# Altium footprint library BM04B-GHS-TBT(LF)(SN)(N).PcbLib: 1 footprints
Each footprint in its own frame and in the unit in brackets; x right, y up, seen from the top. Pads: shape width x height; smd on the part's side, far side on the other; paste and mask are expansions set on the pad; w line width, h text height; cw(c..) or ccw(c..) is an arc to the next point about the centre after c.
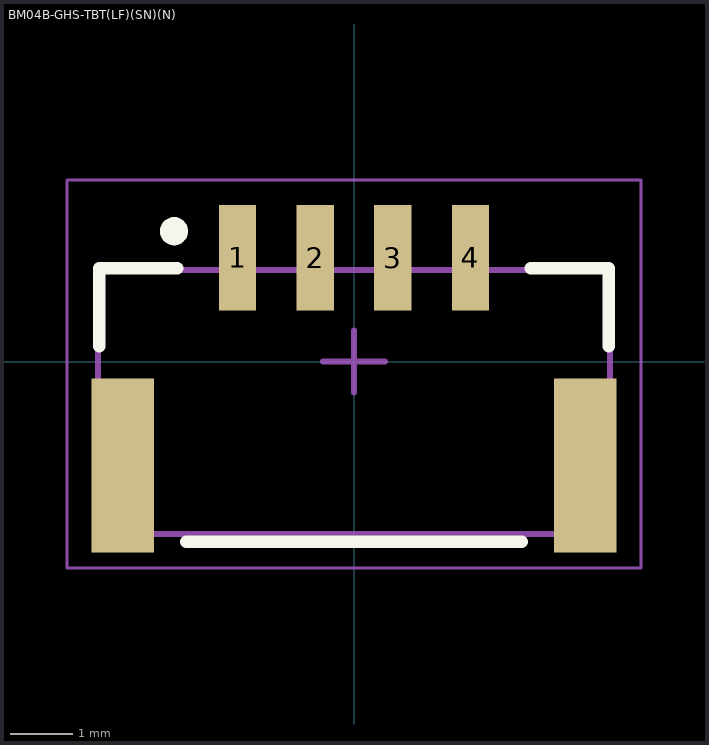
[diagram p0: the footprint, top view; thin cyan lines are the x and y axes]

## BM04B-GHS-TBT(LF)(SN)(N) [mm]
pads (6):
  rect 0.6x1.7 smd: 1(-1.875,1.675) 2(-0.625,1.675) 3(0.625,1.675) 4(1.875,1.675)
  rect 1x2.8 smd: ""(-3.725,-1.675) ""(3.725,-1.675)
Top Overlay:
  circle w0.254: c-2.9,2.1 r0.1
  lines w0.2: -4.1,0.25 -4.1,1.5 -2.85,1.5 ; -2.7,-2.9 2.7,-2.9 ; 2.85,1.5 4.1,1.5 4.1,0.25
Mechanical 1:
  lines w0.1: -4.125,-2.775 4.125,-2.775 4.125,1.475 -4.125,1.475 -4.125,-2.775
  text ".Designator" at -3.499,-1.308 h0.65
Mechanical 2:
  lines w0.05: -4.625,-3.325 4.625,-3.325 4.625,2.925 -4.625,2.925 -4.625,-3.325
  lines w0.1: -0.5,0 0.5,0 ; 0,-0.5 0,0.5
3D body "BM04B-GHS-TBT.STEP": height 4.18, standoff -0.03, extent -4.15,-2.8 4.1,2.15